# Altium footprint library TI_TPS259620DDAT.PcbLib: 1 footprints
Each footprint in its own frame and in the unit in brackets; x right, y up, seen from the top. Pads: shape width x height; smd on the part's side, far side on the other; paste and mask are expansions set on the pad; w line width, h text height; cw(c..) or ccw(c..) is an arc to the next point about the centre after c.
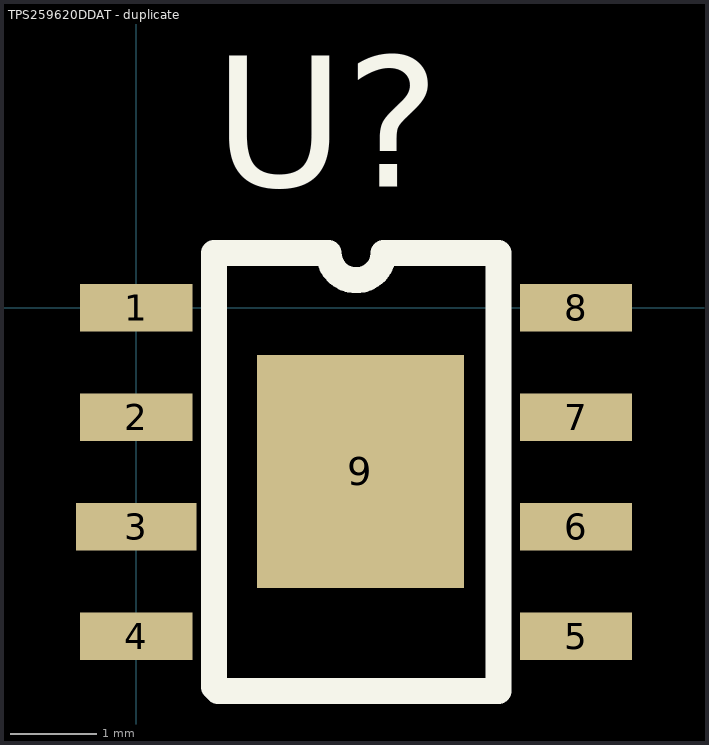
[diagram p0: the footprint, top view; thin cyan lines are the x and y axes]

## TPS259620DDAT - duplicate [mm]
pads (9):
  rect 1.3x0.55 smd: 1(0,0) 2(0,-1.27) 4(0,-3.81) 5(5.1,-3.81) 6(5.1,-2.54) 7(5.1,-1.27) 8(5.1,0)
  rect 1.4x0.55 smd: 3(0,-2.54)
  rect 2.4x2.7 smd: 9(2.6,-1.9)
Top Overlay:
  lines w0.3: 0.9,-4.4 0.9,-2.975 0.9,-0.835 0.9,0.635 2.232,0.635 ccw(c2.55,0.635) 2.867,0.635 4.2,0.635 4.2,-4.445 0.945,-4.445 0.9,-4.4
  text "U?" at 0.9,1.4 h1.52